# Altium footprint library VSON-14(4.5X3.0).PcbLib: 1 footprints
Each footprint in its own frame and in the unit in brackets; x right, y up, seen from the top. Pads: shape width x height; smd on the part's side, far side on the other; paste and mask are expansions set on the pad; w line width, h text height; cw(c..) or ccw(c..) is an arc to the next point about the centre after c.
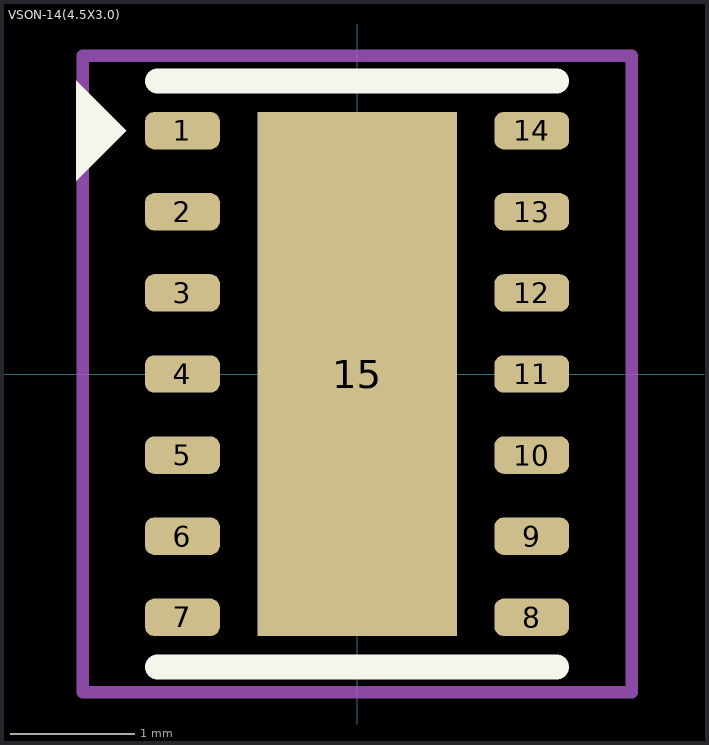
[diagram p0: the footprint, top view; thin cyan lines are the x and y axes]

## VSON-14(4.5X3.0) [mm]
height 0.8
pads (15):
  rrect50% 0.6x0.3 smd: 1(-1.4,1.95) 2(-1.4,1.3) 3(-1.4,0.65) 4(-1.4,0) 5(-1.4,-0.65) 6(-1.4,-1.3) 7(-1.4,-1.95) 8(1.4,-1.95) 9(1.4,-1.3) 10(1.4,-0.65) 11(1.4,0) 12(1.4,0.65) 13(1.4,1.3) 14(1.4,1.95)
  rect 1.6x4.2 smd paste-2539.97: 15(0,0)
Top Overlay:
  region: -2.25,1.55 -2.25,2.35 -1.85,1.95
  lines w0.2: -1.6,-2.35 1.6,-2.35 ; -1.6,2.35 1.6,2.35
Top Paste:
  rectangle: -0.65,-0.55 0.65,0.55
  rectangle: -0.65,0.85 0.65,1.95
  region: 0.65,-0.85 -0.65,-0.85 -0.65,-1.95 0.65,-1.95
Top Courtyard:
  lines w0.1: -2.2,-2.55 -2.2,2.55 2.2,2.55 2.2,-2.55 -2.2,-2.55
3D body "SON65P300X80_HS-15N.step": height 0.8, standoff 0, extent -1.6,-2.3 1.6,2.3